# EAGLE library part REL-G5Y-254P (library divers)
RF relais 2x2, Omron G5Y-254P Plastic case (32.3*12.3mm)
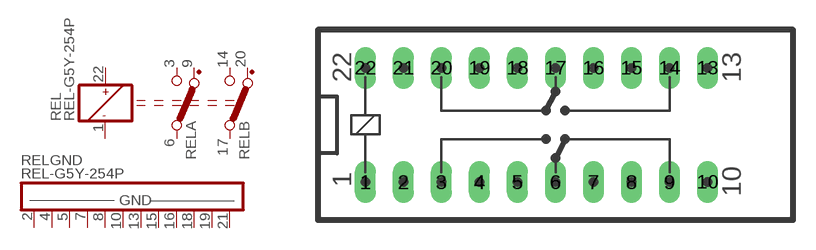
[diagram p11: symbol with the pads of G5Y-254P; footprint G5Y-254P]

Designator prefix REL; gates P=REL+-P A=REL1X2P B=REL1X2P GND=GND12

## REL-G5Y-254P  [G5Y-254P]
1  P:V-  pwr
2  GND:1  pwr
3  A:1
4  GND:2  pwr
5  GND:3  pwr
6  A:I
7  GND:4  pwr
8  GND:5  pwr
9  A:0
10  GND:6  pwr
13  GND:7  pwr
14  B:1
15  GND:8  pwr
16  GND:9  pwr
17  B:I
18  GND:10  pwr
19  GND:11  pwr
20  B:0
21  GND:12  pwr
22  P:V+  pwr

## Footprint G5Y-254P (pad centres in mm)
RF relais 2x2 (32.3*12.3mm) - Omron G5Y-254P
drill 0.813 pad 1.397 long: 1 -12.7,-3.81; 2 -10.16,-3.81; 3 -7.62,-3.81; 4 -5.08,-3.81; 5 -2.54,-3.81; 6 0,-3.81; 7 2.54,-3.81; 8 5.08,-3.81; 9 7.62,-3.81; 10 10.16,-3.81; 13 10.16,3.81; 14 7.62,3.81; 15 5.08,3.81; 16 2.54,3.81; 17 0,3.81; 18 -2.54,3.81; 19 -5.08,3.81; 20 -7.62,3.81; 21 -10.16,3.81; 22 -12.7,3.81